# EAGLE library part NS39-W6P (library Konektory)
TME
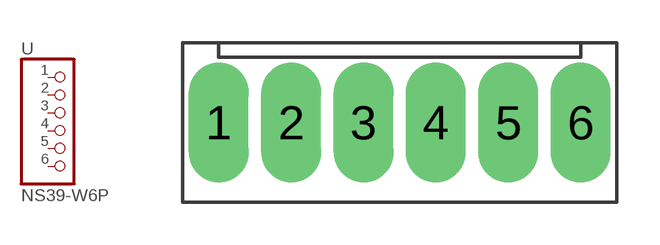
[diagram p0: symbol with the pads of CON_2.54_WF_6; footprint CON_2.54_WF_6]

Designator prefix -

## NS39-W6P  [CON_2.54_WF_6]
1  1  pas
2  2  pas
3  3  pas
4  4  pas
5  5  pas
6  6  pas

## Footprint CON_2.54_WF_6 (pad centres in mm)
PIN HEADER
drill 0.8 pad 2.1 long: 1 -6.35,0; 2 -3.81,0; 3 -1.27,0; 4 1.27,0; 5 3.81,0; 6 6.35,0